# Altium footprint library 电容.PcbLib: 174 footprints (part 11 of 11)
Each footprint in its own frame and in the unit in brackets; x right, y up, seen from the top. Pads: shape width x height; smd on the part's side, far side on the other; paste and mask are expansions set on the pad; w line width, h text height; cw(c..) or ccw(c..) is an arc to the next point about the centre after c.
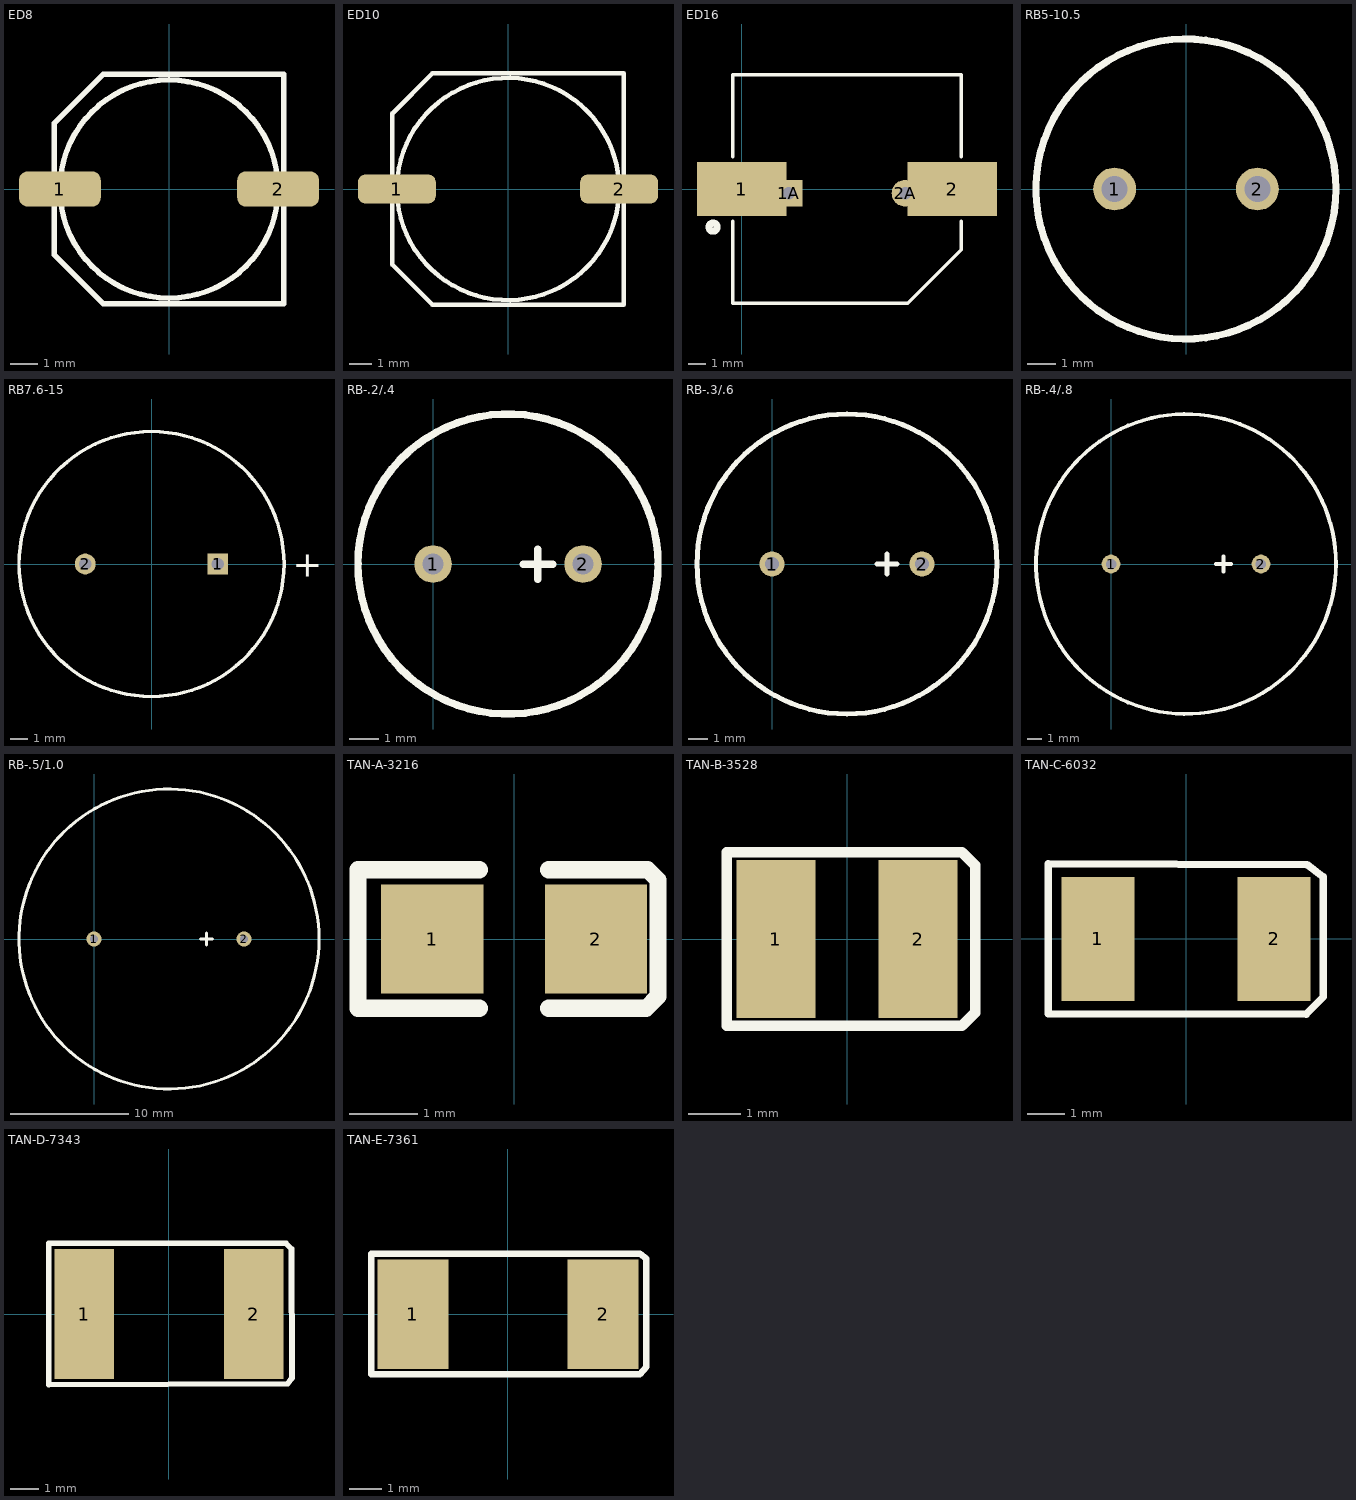
[diagram p10: the footprints below, top view; thin cyan lines are the x and y axes]

## ED8 [mm]
height 10
pads (2):
  rrect50% 3x1.3 smd: 1(-4,0) 2(4,0)
Top Overlay:
  circle w0.2: c0,0 r4
  lines w0.2: -4.2,-2.413 -2.413,-4.2 4.2,-4.2 4.2,4.2 -2.413,4.2 -4.2,2.413 -4.2,-2.413
3D body "SL-H.step": height 10.5, standoff 0, extent -4.521,-4.216 4.479,4.084

## ED10 [mm]
height 10
pads (2):
  rrect50% 3.5x1.3 smd: 1(-5,0) 2(5,0)
Top Overlay:
  circle w0.2: c0,0 r5
  lines w0.2: -5.2,3.404 -5.2,-3.404 -3.404,-5.2 5.2,-5.2 5.2,5.2 -3.404,5.2 -5.191,3.413
3D body "SW3dPS-capacitor size G.STEP": height 10.21, standoff -0.01, extent -5.775,-5.118 5.825,5.182

## ED16 [mm] "Magnetic Transducer Buzzer"
pads (4):
  rect 5x3 smd: 1(0,0) 2(11.8,0)
  rect 1.5x1.5 hole 0.7: 1A(2.65,-0.24)
  round 1.5 hole 0.7: 2A(9.15,-0.24)
Top Overlay:
  circle w0.4: c-1.6,-2.134 r0.227
  lines w0.2: -0.5,-1.8 -0.5,-6.4 9.3,-6.4 12.3,-3.4 12.3,-1.8 ; -0.5,1.8 -0.5,6.4 12.3,6.4 12.3,1.8
3D body "CAPE-H16.STEP": height 17, standoff 0, extent -1.654,-7.231 13.846,6.469

## RB5-10.5 [mm]
pads (2):
  round 1.5 hole 0.9: 1(-2.5,0) 2(2.5,0)
Top Overlay:
  circle w0.25: c0,0 r5.25
Mechanical 1:
  circle w0.02: c0,0 r5.25
3D body: height 20, standoff 0.2, extent -5.249,-5.249 5.249,5.249

## RB7.6-15 [mm]
pads (2):
  rect 1.2x1.2 hole 0.7: 1(3.81,0)
  round 1.2 hole 0.7: 2(-3.81,0)
Top Overlay:
  circle w0.2: c0,0 r7.62
  text "+" at 8.132,-0.737 h1.5
3D body: height 25, standoff 0.2, extent -7.619,-7.619 7.619,7.619

## RB-.2/.4 [mil]
pads (2):
  round 50 hole 28: 1(0,0) 2(200,0)
Top Overlay:
  circle w10: c100,0 r200
  lines w10: 120,0 160,0 ; 140,-20 140,20
3D body: height 314.96, standoff 7.87, extent -99.98,-199.98 299.98,199.98

## RB-.3/.6 [mil]
pads (2):
  round 50 hole 28: 1(0,0) 2(300,0)
Top Overlay:
  circle w10: c150,0 r300
  lines w10: 210,0 250,0 ; 230,-20 230,20
3D body: height 433.07, standoff 7.87, extent -149.98,-299.98 449.98,299.98

## RB-.4/.8 [mil]
pads (2):
  round 50 hole 28: 1(0,0) 2(400,0)
Top Overlay:
  circle w10: c200,0 r400
  lines w10: 280,0 320,0 ; 300,-20 300,20
3D body: height 590.55, standoff 7.87, extent -199.98,-399.98 599.98,399.98

## RB-.5/1.0 [mil]
pads (2):
  round 50 hole 28: 1(0,0) 2(500,0)
Top Overlay:
  circle w10: c250,0 r500
  lines w10: 355,0 395,0 ; 375,-20 375,20
3D body: height 1181.1, standoff 7.87, extent -249.98,-499.98 749.98,499.98

## TAN-A-3216 [mm]
height 1.6
pads (2):
  rect 1.5x1.6 smd: 1(-1.2,0) 2(1.2,0)
Top Overlay:
  lines w0.25: 1.93,-1.016 2.108,-0.838 2.108,0.864 1.956,1.016 1.93,1.016
  lines w0.254: -0.508,-1.016 -2.286,-1.016 -2.286,1.016 -0.508,1.016 ; 0.508,-1.016 1.93,-1.016 ; 0.508,1.016 1.93,1.016
3D body "TAJ-A.STEP": height 1.6, standoff 0, extent -1.6,-0.8 1.6,0.8

## TAN-B-3528 [mm]
height 1.9
pads (2):
  rect 1.5x3 smd: 1(-1.35,0) 2(1.35,0)
Top Overlay:
  lines w0.2: -2.286,1.626 -2.286,-1.651 2.184,-1.651 2.438,-1.397 2.438,1.397 2.184,1.651 -2.286,1.651
3D body "TAJ-B.STEP": height 1.9, standoff 0, extent -1.75,-1.4 1.75,1.4

## TAN-C-6032 [mm]
pads (2):
  rect 1.95x3.3 smd: 1(-2.35,0) 2(2.35,0)
Top Overlay:
  lines w0.2: -3.675,-2 -3.675,0 -3.675,2 3.226,1.981 3.658,1.651 3.658,-1.549 3.2,-2.007 -3.675,-2
3D body "TAJ-C.STEP": height 2.6, standoff 0, extent -3,-1.6 3,1.6

## TAN-D-7343 [mm]
pads (2):
  rect 2.1x4.6 smd: 1(-3,0) 2(3,0)
Top Overlay:
  lines w0.2: -4.25,-2.5 -4.25,0 -4.25,2.5 4.14,2.489 4.327,2.303 4.343,-2.261 4.191,-2.464 -4.25,-2.5
3D body "TAJ-D.STEP": height 2.9, standoff 0, extent -3.65,-2.15 3.65,2.15

## TAN-E-7361 [mm]
pads (2):
  rect 2.2x3.4 smd: 1(-2.95,0) 2(2.95,0)
Top Overlay:
  lines w0.2: -4.242,-1.854 -4.242,-0.051 -4.242,1.88 4.089,1.88 4.293,1.727 4.293,-1.626 4.089,-1.854 -4.242,-1.854
3D body "TAJ-E.STEP": height 4.1, standoff 0, extent -3.65,-2.15 3.65,2.15